# Altium schematic symbol library CAP,Cer,10uF,25VDC,X5R,0603.Schlib: 1 symbol
Pins are listed as number, name and electrical type; pins without a type are passive.

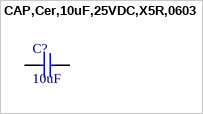
[diagram p0: symbol CAP,Cer,10uF,25VDC,X5R,0603]

## CAP,Cer,10uF,25VDC,X5R,0603
designator C?, comment 10uF
10 µF ±20% 25V Ceramic Capacitor X5R 0603 (1608 Metric)
pins: 1, 2